# Altium integrated library Microchip Mixed Signal.IntLib: 1399 symbols (part 6 of 39)
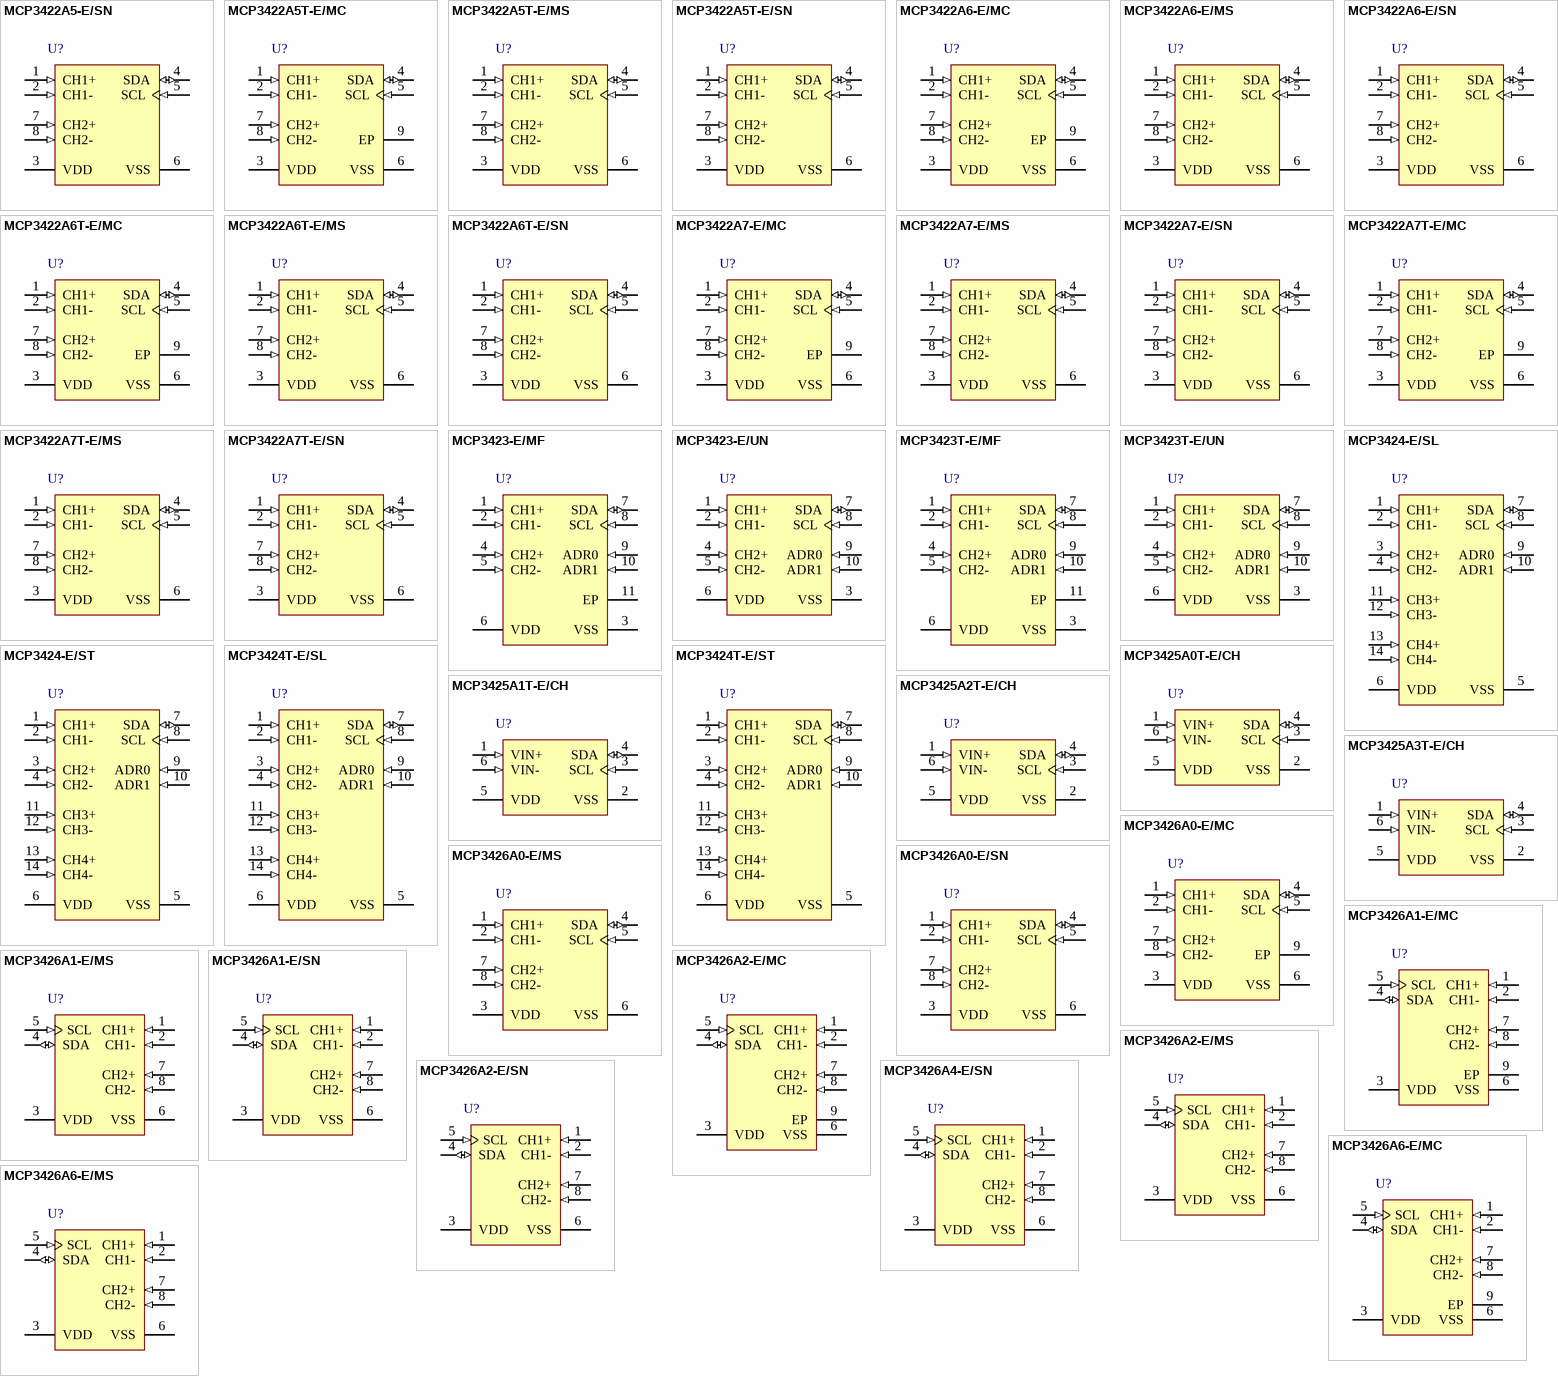
[diagram p49: symbols MCP3422A5-E/SN to MCP3426A6-E/MS]

## MCP3426A1-E/MS
designator U?
16-Bit, Multi-Channel sigma delta Analog-to-Digital Converter with I2C™ Interface and On-Board Reference, 145 uA, 2.7 to 5.5 V, -40 to 125 degC, 8-pin MSOP (MS8), Tube; Manufacturer: Microchip; PartNumber: MCP3426A1-E/MS; DatasheetVersion: Rev. A; PackageVersion: C04-111C; PackageReference: MSOP-MS8; PackageDescription: 8-Lead Plastic Micro Small Outline Package, 3 x 3 mm Body, 0.65 mm Pitch; Supplier 1: Digi-Key; Supplier Part Number 1: MCP3426A1-E/MS-ND; Supplier 2: Newark; Supplier Part Number 2: 31W8789; Supplier 3: Mouser; Supplier Part Number 3: 579-MCP3426A1-E/MS; Mounting Technology: Surface Mount; ComponentLink1Description: Manufacturer URL; ComponentLink1URL: http://www.microchip.com; ComponentLink2Description: Datasheet; ComponentLink2URL: http://ww1.microchip.com/downloads/en/DeviceDoc/22226a.pdf; ComponentLink3Description: Package Specification; ComponentLink3URL: http://www.microchip.com/stellent/groups/techpub_sg/documents/packagingspec/en012702.pdf; ComponentLink4Description: Product URL; ComponentLink4URL: http://www.microchip.com/MCP3426
footprint MCHP-MSOP-MS8_N (SOP, 8-Leads, Body 3x3mm, Pitch 0.65mm, IPC Medium Density)
footprint MCHP-MSOP-MS8_L (SOP, 8-Leads, Body 3x3mm, Pitch 0.65mm, IPC High Density)
footprint MCHP-MSOP-MS8_M (SOP, 8-Leads, Body 3x3mm, Pitch 0.65mm, IPC Low Density)
pins: 1 CH1+ (in) "Positive Differential Analog Input Pin of Channel 1", 2 CH1- (in) "Negative Differential Analog Input Pin of Channel 1", 3 VDD (power) "Positive Supply Voltage Pin", 4 SDA (io) "Bidirectional Serial Data Pin of the I2C Interface", 5 SCL (in) "Serial Clock Pin of the I2C Interface", 6 VSS (power) "Ground Pin", 7 CH2+ (in) "Positive Differential Analog Input Pin of Channel 2", 8 CH2- (in) "Negative Differential Analog Input Pin of Channel 2"

## MCP3426A1-E/SN
designator U?
16-Bit, Multi-Channel sigma delta Analog-to-Digital Converter with I2C™ Interface and On-Board Reference, 145 uA, 2.7 to 5.5 V, -40 to 125 degC, 8-pin SOIC (SN8), Tube; Manufacturer: Microchip; PartNumber: MCP3426A1-E/SN; DatasheetVersion: Rev. A; PackageVersion: C04-057C; PackageReference: SOIC-SN8; PackageDescription: 8-Lead Plastic Small Outline, 4.9 x 3.9 mm Body, 1.27 mm Pitch; Supplier 1: Digi-Key; Supplier Part Number 1: MCP3426A1-E/SN-ND; Supplier 2: Newark; Supplier Part Number 2: 31W8790; Supplier 3: Mouser; Supplier Part Number 3: 579-MCP3426A1-E/SN; Mounting Technology: Surface Mount; ComponentLink1Description: Manufacturer URL; ComponentLink1URL: http://www.microchip.com; ComponentLink2Description: Datasheet; ComponentLink2URL: http://ww1.microchip.com/downloads/en/DeviceDoc/22226a.pdf; ComponentLink3Description: Package Specification; ComponentLink3URL: http://www.microchip.com/stellent/groups/techpub_sg/documents/packagingspec/en012702.pdf; ComponentLink4Description: Product URL; ComponentLink4URL: http://www.microchip.com/MCP3426
footprint MCHP-SOIC-SN8_N (SOIC, 8-Leads, Body 4.9x3.9mm, Pitch 1.27mm, IPC Medium Density)
footprint MCHP-SOIC-SN8_L (SOIC, 8-Leads, Body 4.9x3.9mm, Pitch 1.27mm, IPC High Density)
footprint MCHP-SOIC-SN8_M (SOIC, 8-Leads, Body 4.9x3.9mm, Pitch 1.27mm, IPC Low Density)
pins: 1 CH1+ (in) "Positive Differential Analog Input Pin of Channel 1", 2 CH1- (in) "Negative Differential Analog Input Pin of Channel 1", 3 VDD (power) "Positive Supply Voltage Pin", 4 SDA (io) "Bidirectional Serial Data Pin of the I2C Interface", 5 SCL (in) "Serial Clock Pin of the I2C Interface", 6 VSS (power) "Ground Pin", 7 CH2+ (in) "Positive Differential Analog Input Pin of Channel 2", 8 CH2- (in) "Negative Differential Analog Input Pin of Channel 2"

## MCP3426A2-E/MC
designator U?
16-Bit, Multi-Channel sigma delta Analog-to-Digital Converter with I2C™ Interface and On-Board Reference, 145 uA, 2.7 to 5.5 V, -40 to 125 degC, 8-pin DFN (MC8), Tube; Manufacturer: Microchip; PartNumber: MCP3426A2-E/MC; DatasheetVersion: Rev. A; PackageVersion: C04-123C; PackageReference: DFN-MC8; PackageDescription: 8-Lead Plastic Dual Flat, 2 x 3 mm Body, 0.5 mm Pitch; Supplier 1: Digi-Key; Supplier Part Number 1: MCP3426A2-E/MC-ND; Supplier 2: Newark; Supplier Part Number 2: 31W8794; Supplier 3: Mouser; Supplier Part Number 3: 579-MCP3426A2-E/MC; Mounting Technology: Surface Mount; ComponentLink1Description: Manufacturer URL; ComponentLink1URL: http://www.microchip.com; ComponentLink2Description: Datasheet; ComponentLink2URL: http://ww1.microchip.com/downloads/en/DeviceDoc/22226a.pdf; ComponentLink3Description: Package Specification; ComponentLink3URL: http://www.microchip.com/stellent/groups/techpub_sg/documents/packagingspec/en012702.pdf; ComponentLink4Description: Product URL; ComponentLink4URL: http://www.microchip.com/MCP3426
footprint MCHP-DFN-MC8_V (SON, 8-Leads, Body 3x2mm, Pitch 0.5mm, Thermal Pad 1.45x1.75mm)
pins: 1 CH1+ (in) "Positive Differential Analog Input Pin of Channel 1", 2 CH1- (in) "Negative Differential Analog Input Pin of Channel 1", 3 VDD (power) "Positive Supply Voltage Pin", 4 SDA (io) "Bidirectional Serial Data Pin of the I2C Interface", 5 SCL (in) "Serial Clock Pin of the I2C Interface", 6 VSS (power) "Ground Pin", 7 CH2+ (in) "Positive Differential Analog Input Pin of Channel 2", 8 CH2- (in) "Negative Differential Analog Input Pin of Channel 2", 9 EP (power) "Exposed Thermal Pad (EP); must be connected to VSS"

## MCP3426A2-E/MS
designator U?
16-Bit, Multi-Channel sigma delta Analog-to-Digital Converter with I2C™ Interface and On-Board Reference, 145 uA, 2.7 to 5.5 V, -40 to 125 degC, 8-pin MSOP (MS8), Tube; Manufacturer: Microchip; PartNumber: MCP3426A2-E/MS; DatasheetVersion: Rev. A; PackageVersion: C04-111C; PackageReference: MSOP-MS8; PackageDescription: 8-Lead Plastic Micro Small Outline Package, 3 x 3 mm Body, 0.65 mm Pitch; Supplier 1: Digi-Key; Supplier Part Number 1: MCP3426A2-E/MS-ND; Supplier 2: Newark; Supplier Part Number 2: 31W8795; Supplier 3: Mouser; Supplier Part Number 3: 579-MCP3426A2-E/MS; Mounting Technology: Surface Mount; ComponentLink1Description: Manufacturer URL; ComponentLink1URL: http://www.microchip.com; ComponentLink2Description: Datasheet; ComponentLink2URL: http://ww1.microchip.com/downloads/en/DeviceDoc/22226a.pdf; ComponentLink3Description: Package Specification; ComponentLink3URL: http://www.microchip.com/stellent/groups/techpub_sg/documents/packagingspec/en012702.pdf; ComponentLink4Description: Product URL; ComponentLink4URL: http://www.microchip.com/MCP3426
footprint MCHP-MSOP-MS8_N (SOP, 8-Leads, Body 3x3mm, Pitch 0.65mm, IPC Medium Density)
footprint MCHP-MSOP-MS8_L (SOP, 8-Leads, Body 3x3mm, Pitch 0.65mm, IPC High Density)
footprint MCHP-MSOP-MS8_M (SOP, 8-Leads, Body 3x3mm, Pitch 0.65mm, IPC Low Density)
pins: 1 CH1+ (in) "Positive Differential Analog Input Pin of Channel 1", 2 CH1- (in) "Negative Differential Analog Input Pin of Channel 1", 3 VDD (power) "Positive Supply Voltage Pin", 4 SDA (io) "Bidirectional Serial Data Pin of the I2C Interface", 5 SCL (in) "Serial Clock Pin of the I2C Interface", 6 VSS (power) "Ground Pin", 7 CH2+ (in) "Positive Differential Analog Input Pin of Channel 2", 8 CH2- (in) "Negative Differential Analog Input Pin of Channel 2"

## MCP3426A2-E/SN
designator U?
16-Bit, Multi-Channel sigma delta Analog-to-Digital Converter with I2C™ Interface and On-Board Reference, 145 uA, 2.7 to 5.5 V, -40 to 125 degC, 8-pin SOIC (SN8), Tube; Manufacturer: Microchip; PartNumber: MCP3426A2-E/SN; DatasheetVersion: Rev. A; PackageVersion: C04-057C; PackageReference: SOIC-SN8; PackageDescription: 8-Lead Plastic Small Outline, 4.9 x 3.9 mm Body, 1.27 mm Pitch; Supplier 1: Digi-Key; Supplier Part Number 1: MCP3426A2-E/SN-ND; Supplier 2: Newark; Supplier Part Number 2: 31W8796; Supplier 3: Mouser; Supplier Part Number 3: 579-MCP3426A2-E/SN; Mounting Technology: Surface Mount; ComponentLink1Description: Manufacturer URL; ComponentLink1URL: http://www.microchip.com; ComponentLink2Description: Datasheet; ComponentLink2URL: http://ww1.microchip.com/downloads/en/DeviceDoc/22226a.pdf; ComponentLink3Description: Package Specification; ComponentLink3URL: http://www.microchip.com/stellent/groups/techpub_sg/documents/packagingspec/en012702.pdf; ComponentLink4Description: Product URL; ComponentLink4URL: http://www.microchip.com/MCP3426
footprint MCHP-SOIC-SN8_N (SOIC, 8-Leads, Body 4.9x3.9mm, Pitch 1.27mm, IPC Medium Density)
footprint MCHP-SOIC-SN8_L (SOIC, 8-Leads, Body 4.9x3.9mm, Pitch 1.27mm, IPC High Density)
footprint MCHP-SOIC-SN8_M (SOIC, 8-Leads, Body 4.9x3.9mm, Pitch 1.27mm, IPC Low Density)
pins: 1 CH1+ (in) "Positive Differential Analog Input Pin of Channel 1", 2 CH1- (in) "Negative Differential Analog Input Pin of Channel 1", 3 VDD (power) "Positive Supply Voltage Pin", 4 SDA (io) "Bidirectional Serial Data Pin of the I2C Interface", 5 SCL (in) "Serial Clock Pin of the I2C Interface", 6 VSS (power) "Ground Pin", 7 CH2+ (in) "Positive Differential Analog Input Pin of Channel 2", 8 CH2- (in) "Negative Differential Analog Input Pin of Channel 2"

## MCP3426A4-E/SN
designator U?
16-Bit, Multi-Channel sigma delta Analog-to-Digital Converter with I2C™ Interface and On-Board Reference, 145 uA, 2.7 to 5.5 V, -40 to 125 degC, 8-pin SOIC (SN8), Tube; Manufacturer: Microchip; PartNumber: MCP3426A4-E/SN; DatasheetVersion: Rev. A; PackageVersion: C04-057C; PackageReference: SOIC-SN8; PackageDescription: 8-Lead Plastic Small Outline, 4.9 x 3.9 mm Body, 1.27 mm Pitch; Supplier 1: Digi-Key; Supplier Part Number 1: MCP3426A4-E/SN-ND; Supplier 2: Newark; Supplier Part Number 2: 31W8808; Supplier 3: Mouser; Supplier Part Number 3: 579-MCP3426A4-E/SN; Mounting Technology: Surface Mount; ComponentLink1Description: Manufacturer URL; ComponentLink1URL: http://www.microchip.com; ComponentLink2Description: Datasheet; ComponentLink2URL: http://ww1.microchip.com/downloads/en/DeviceDoc/22226a.pdf; ComponentLink3Description: Package Specification; ComponentLink3URL: http://www.microchip.com/stellent/groups/techpub_sg/documents/packagingspec/en012702.pdf; ComponentLink4Description: Product URL; ComponentLink4URL: http://www.microchip.com/MCP3426
footprint MCHP-SOIC-SN8_N (SOIC, 8-Leads, Body 4.9x3.9mm, Pitch 1.27mm, IPC Medium Density)
footprint MCHP-SOIC-SN8_L (SOIC, 8-Leads, Body 4.9x3.9mm, Pitch 1.27mm, IPC High Density)
footprint MCHP-SOIC-SN8_M (SOIC, 8-Leads, Body 4.9x3.9mm, Pitch 1.27mm, IPC Low Density)
pins: 1 CH1+ (in) "Positive Differential Analog Input Pin of Channel 1", 2 CH1- (in) "Negative Differential Analog Input Pin of Channel 1", 3 VDD (power) "Positive Supply Voltage Pin", 4 SDA (io) "Bidirectional Serial Data Pin of the I2C Interface", 5 SCL (in) "Serial Clock Pin of the I2C Interface", 6 VSS (power) "Ground Pin", 7 CH2+ (in) "Positive Differential Analog Input Pin of Channel 2", 8 CH2- (in) "Negative Differential Analog Input Pin of Channel 2"

## MCP3426A6-E/MC
designator U?
16-Bit, Multi-Channel sigma delta Analog-to-Digital Converter with I2C™ Interface and On-Board Reference, 145 uA, 2.7 to 5.5 V, -40 to 125 degC, 8-pin DFN (MC8), Tube; Manufacturer: Microchip; PartNumber: MCP3426A6-E/MC; DatasheetVersion: Rev. A; PackageVersion: C04-123C; PackageReference: DFN-MC8; PackageDescription: 8-Lead Plastic Dual Flat, 2 x 3 mm Body, 0.5 mm Pitch; Supplier 1: Digi-Key; Supplier Part Number 1: MCP3426A6-E/MC-ND; Supplier 2: Newark; Supplier Part Number 2: 31W8818; Supplier 3: Mouser; Supplier Part Number 3: 579-MCP3426A6-E/MC; Mounting Technology: Surface Mount; ComponentLink1Description: Manufacturer URL; ComponentLink1URL: http://www.microchip.com; ComponentLink2Description: Datasheet; ComponentLink2URL: http://ww1.microchip.com/downloads/en/DeviceDoc/22226a.pdf; ComponentLink3Description: Package Specification; ComponentLink3URL: http://www.microchip.com/stellent/groups/techpub_sg/documents/packagingspec/en012702.pdf; ComponentLink4Description: Product URL; ComponentLink4URL: http://www.microchip.com/MCP3426
footprint MCHP-DFN-MC8_V (SON, 8-Leads, Body 3x2mm, Pitch 0.5mm, Thermal Pad 1.45x1.75mm)
pins: 1 CH1+ (in) "Positive Differential Analog Input Pin of Channel 1", 2 CH1- (in) "Negative Differential Analog Input Pin of Channel 1", 3 VDD (power) "Positive Supply Voltage Pin", 4 SDA (io) "Bidirectional Serial Data Pin of the I2C Interface", 5 SCL (in) "Serial Clock Pin of the I2C Interface", 6 VSS (power) "Ground Pin", 7 CH2+ (in) "Positive Differential Analog Input Pin of Channel 2", 8 CH2- (in) "Negative Differential Analog Input Pin of Channel 2", 9 EP (power) "Exposed Thermal Pad (EP); must be connected to VSS"

## MCP3426A6-E/MS
designator U?
16-Bit, Multi-Channel sigma delta Analog-to-Digital Converter with I2C™ Interface and On-Board Reference, 145 uA, 2.7 to 5.5 V, -40 to 125 degC, 8-pin MSOP (MS8), Tube; Manufacturer: Microchip; PartNumber: MCP3426A6-E/MS; DatasheetVersion: Rev. A; PackageVersion: C04-111C; PackageReference: MSOP-MS8; PackageDescription: 8-Lead Plastic Micro Small Outline Package, 3 x 3 mm Body, 0.65 mm Pitch; Supplier 1: Digi-Key; Supplier Part Number 1: MCP3426A6-E/MS-ND; Supplier 2: Newark; Supplier Part Number 2: 31W8819; Supplier 3: Mouser; Supplier Part Number 3: 579-MCP3426A6-E/MS; Mounting Technology: Surface Mount; ComponentLink1Description: Manufacturer URL; ComponentLink1URL: http://www.microchip.com; ComponentLink2Description: Datasheet; ComponentLink2URL: http://ww1.microchip.com/downloads/en/DeviceDoc/22226a.pdf; ComponentLink3Description: Package Specification; ComponentLink3URL: http://www.microchip.com/stellent/groups/techpub_sg/documents/packagingspec/en012702.pdf; ComponentLink4Description: Product URL; ComponentLink4URL: http://www.microchip.com/MCP3426
footprint MCHP-MSOP-MS8_N (SOP, 8-Leads, Body 3x3mm, Pitch 0.65mm, IPC Medium Density)
footprint MCHP-MSOP-MS8_L (SOP, 8-Leads, Body 3x3mm, Pitch 0.65mm, IPC High Density)
footprint MCHP-MSOP-MS8_M (SOP, 8-Leads, Body 3x3mm, Pitch 0.65mm, IPC Low Density)
pins: 1 CH1+ (in) "Positive Differential Analog Input Pin of Channel 1", 2 CH1- (in) "Negative Differential Analog Input Pin of Channel 1", 3 VDD (power) "Positive Supply Voltage Pin", 4 SDA (io) "Bidirectional Serial Data Pin of the I2C Interface", 5 SCL (in) "Serial Clock Pin of the I2C Interface", 6 VSS (power) "Ground Pin", 7 CH2+ (in) "Positive Differential Analog Input Pin of Channel 2", 8 CH2- (in) "Negative Differential Analog Input Pin of Channel 2"

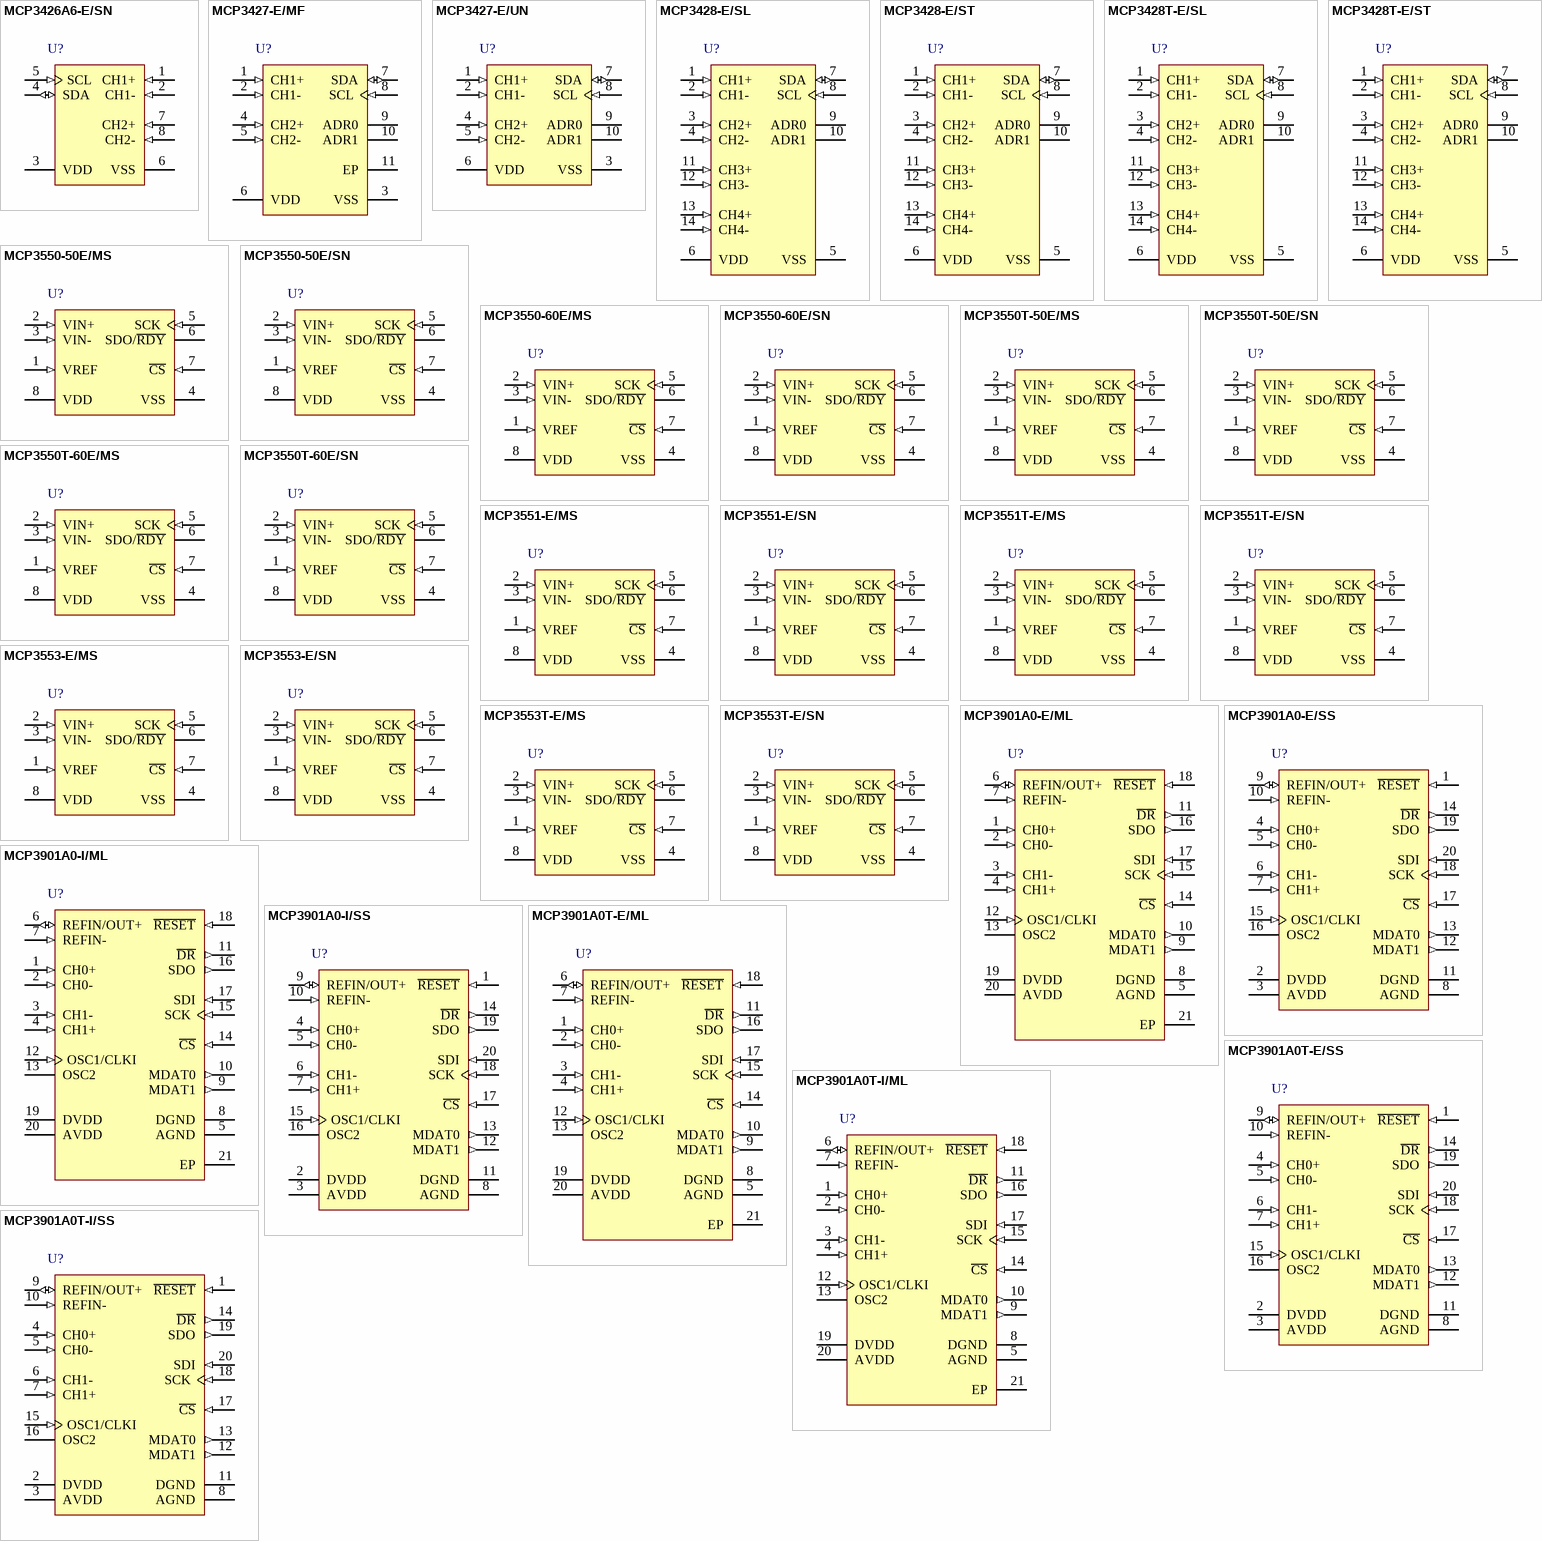
[diagram p5: symbols MCP3426A6-E/SN to MCP3901A0T-I/SS]

## MCP3426A6-E/SN
designator U?
16-Bit, Multi-Channel sigma delta Analog-to-Digital Converter with I2C™ Interface and On-Board Reference, 145 uA, 2.7 to 5.5 V, -40 to 125 degC, 8-pin SOIC (SN8), Tube; Manufacturer: Microchip; PartNumber: MCP3426A6-E/SN; DatasheetVersion: Rev. A; PackageVersion: C04-057C; PackageReference: SOIC-SN8; PackageDescription: 8-Lead Plastic Small Outline, 4.9 x 3.9 mm Body, 1.27 mm Pitch; Supplier 1: Digi-Key; Supplier Part Number 1: MCP3426A6-E/SN-ND; Supplier 2: Newark; Supplier Part Number 2: 31W8820; Supplier 3: Mouser; Supplier Part Number 3: 579-MCP3426A6-E/SN; Mounting Technology: Surface Mount; ComponentLink1Description: Manufacturer URL; ComponentLink1URL: http://www.microchip.com; ComponentLink2Description: Datasheet; ComponentLink2URL: http://ww1.microchip.com/downloads/en/DeviceDoc/22226a.pdf; ComponentLink3Description: Package Specification; ComponentLink3URL: http://www.microchip.com/stellent/groups/techpub_sg/documents/packagingspec/en012702.pdf; ComponentLink4Description: Product URL; ComponentLink4URL: http://www.microchip.com/MCP3426
footprint MCHP-SOIC-SN8_N (SOIC, 8-Leads, Body 4.9x3.9mm, Pitch 1.27mm, IPC Medium Density)
footprint MCHP-SOIC-SN8_L (SOIC, 8-Leads, Body 4.9x3.9mm, Pitch 1.27mm, IPC High Density)
footprint MCHP-SOIC-SN8_M (SOIC, 8-Leads, Body 4.9x3.9mm, Pitch 1.27mm, IPC Low Density)
pins: 1 CH1+ (in) "Positive Differential Analog Input Pin of Channel 1", 2 CH1- (in) "Negative Differential Analog Input Pin of Channel 1", 3 VDD (power) "Positive Supply Voltage Pin", 4 SDA (io) "Bidirectional Serial Data Pin of the I2C Interface", 5 SCL (in) "Serial Clock Pin of the I2C Interface", 6 VSS (power) "Ground Pin", 7 CH2+ (in) "Positive Differential Analog Input Pin of Channel 2", 8 CH2- (in) "Negative Differential Analog Input Pin of Channel 2"

## MCP3427-E/MF
designator U?
16-Bit, Multi-Channel Delta-Sigma Analog-to-Digital Converter with I2C Interface and On-Board Reference, 10-Pin DFN, Extended Temperature; Manufacturer: Microchip; PartNumber: MCP3427-E/MF; DatasheetVersion: revA, Dec-2009; PackageVersion: revBB, Aug-2009; PackageReference: DFN-MF10; PackageDescription: 10-Lead Plastic Dual Flat, No Lead Package (MF) - 3x3x0.9mm Body [DFN]; Supplier 1: Digi-Key; Supplier Part Number 1: MCP3427-E/MF-ND; Supplier 2: Farnell; Supplier Part Number 2: 1840932; Supplier 3: Newark; Supplier Part Number 3: 52R9958; Supplier 4: Mouser; Supplier Part Number 4: 579-MCP3427E/MF; Mounting Technology: Surface Mount; ComponentLink1Description: Manufacturer URL; ComponentLink1URL: http://www.microchip.com/; ComponentLink2Description: Datasheet; ComponentLink2URL: http://ww1.microchip.com/downloads/en/DeviceDoc/22226a.pdf; ComponentLink3Description: Package Specification; ComponentLink3URL: http://www.microchip.com/stellent/groups/techpub_sg/documents/packagingspec/en012702.pdf
footprint DFN-MF10 (SON, 10-Leads, Body 3x3mm, Pitch 0.5mm, Microchip Recommended)
pins: 1 CH1+ (in), 2 CH1- (in), 3 VSS (power), 4 CH2+ (in), 5 CH2- (in), 6 VDD (power), 7 SDA (io), 8 SCL (in), 9 ADR0, 10 ADR1, 11 EP

## MCP3427-E/UN
designator U?
16-Bit, Multi-Channel Delta-Sigma Analog-to-Digital Converter with I2C Interface and On-Board Reference, 10-Pin MSOP, Extended Temperature; Manufacturer: Microchip; PartNumber: MCP3427-E/UN; DatasheetVersion: revA, Dec-2009; PackageVersion: revBB, Aug-2009; PackageReference: MSOP-UN10; PackageDescription: 10-Lead Plastic Micro Small Outline Package (UN) [MSOP]; Supplier 1: Digi-Key; Supplier Part Number 1: MCP3427-E/UN-ND; Supplier 2: Newark; Supplier Part Number 2: 52R9959; Supplier 3: Mouser; Supplier Part Number 3: 579-MCP3427E/UN; Mounting Technology: Surface Mount; ComponentLink1Description: Manufacturer URL; ComponentLink1URL: http://www.microchip.com/; ComponentLink2Description: Datasheet; ComponentLink2URL: http://ww1.microchip.com/downloads/en/DeviceDoc/22226a.pdf; ComponentLink3Description: Package Specification; ComponentLink3URL: http://www.microchip.com/stellent/groups/techpub_sg/documents/packagingspec/en012702.pdf
footprint MSOP-UN10_N (TSSOP, 10-Leads, Body 3x3mm, Pitch 0.5mm, IPC Medium Density)
footprint MSOP-UN10_L (TSSOP, 10-Leads, Body 3x3mm, Pitch 0.5mm, IPC High Density)
footprint MSOP-UN10_M (TSSOP, 10-Leads, Body 3x3mm, Pitch 0.5mm, IPC Low Density)
pins: 1 CH1+ (in), 2 CH1- (in), 3 VSS (power), 4 CH2+ (in), 5 CH2- (in), 6 VDD (power), 7 SDA (io), 8 SCL (in), 9 ADR0, 10 ADR1

## MCP3428-E/SL
designator U?
16-Bit, Multi-Channel Delta-Sigma Analog-to-Digital Converter with I2C Interface and On-Board Reference, 14-Pin SOIC 150mil, Extended Temperature; Manufacturer: Microchip; PartNumber: MCP3428-E/SL; DatasheetVersion: revA, Dec-2009; PackageVersion: revBB, Aug-2009; PackageReference: SOIC-SL14; PackageDescription: 14-Lead Plastic Small Outline (SL) - Narrow, 3.90mm Body [SOIC]; Supplier 1: Digi-Key; Supplier Part Number 1: MCP3428-E/SL-ND; Supplier 2: Farnell; Supplier Part Number 2: 1825014; Supplier 3: Newark; Supplier Part Number 3: 52R9962; Supplier 4: Mouser; Supplier Part Number 4: 579-MCP3428E/SL; Mounting Technology: Surface Mount; Code_JEDEC: MS-012-AB; Code_IPC: SOIC127P600-14; ComponentLink1Description: Manufacturer URL; ComponentLink1URL: http://www.microchip.com/; ComponentLink2Description: Datasheet; ComponentLink2URL: http://ww1.microchip.com/downloads/en/DeviceDoc/22226a.pdf; ComponentLink3Description: Package Specification; ComponentLink3URL: http://www.microchip.com/stellent/groups/techpub_sg/documents/packagingspec/en012702.pdf
footprint SOIC-SL14_N (SOIC, 14-Leads, Body 8.7x3.9mm, Pitch 1.27mm, IPC Medium Density)
footprint SOIC-SL14_L (SOIC, 14-Leads, Body 8.7x3.9mm, Pitch 1.27mm, IPC High Density)
footprint SOIC-SL14_M (SOIC, 14-Leads, Body 8.7x3.9mm, Pitch 1.27mm, IPC Low Density)
pins: 1 CH1+ (in), 2 CH1- (in), 3 CH2+ (in), 4 CH2- (in), 5 VSS (power), 6 VDD (power), 7 SDA (io), 8 SCL (in), 9 ADR0, 10 ADR1, 11 CH3+ (in), 12 CH3- (in), 13 CH4+ (in), 14 CH4- (in)

## MCP3428-E/ST
designator U?
16-Bit, Multi-Channel Delta-Sigma Analog-to-Digital Converter with I2C Interface and On-Board Reference, 14-Pin TSSOP, Extended Temperature; Manufacturer: Microchip; PartNumber: MCP3428-E/ST; DatasheetVersion: revA, Dec-2009; PackageVersion: revBB, Aug-2009; PackageReference: TSSOP-ST14; PackageDescription: 14-Lead Plastic Thin Shrink Small Outline (ST) - 4.4mm Body [TSSOP]; Supplier 1: Digi-Key; Supplier Part Number 1: MCP3428-E/ST-ND; Supplier 2: Farnell; Supplier Part Number 2: 1834910; Supplier 3: Newark; Supplier Part Number 3: 52R9963; Supplier 4: Mouser; Supplier Part Number 4: 579-MCP3428E/ST; Mounting Technology: Surface Mount; ComponentLink1Description: Manufacturer URL; ComponentLink1URL: http://www.microchip.com/; ComponentLink2Description: Datasheet; ComponentLink2URL: http://ww1.microchip.com/downloads/en/DeviceDoc/22226a.pdf; ComponentLink3Description: Package Specification; ComponentLink3URL: http://www.microchip.com/stellent/groups/techpub_sg/documents/packagingspec/en012702.pdf
footprint TSSOP-ST14_N (TSOP, 14-Leads, Body 5x4.4mm, Pitch 0.65mm, IPC Medium Density)
footprint TSSOP-ST14_L (TSOP, 14-Leads, Body 5x4.4mm, Pitch 0.65mm, IPC High Density)
footprint TSSOP-ST14_M (TSOP, 14-Leads, Body 5x4.4mm, Pitch 0.65mm, IPC Low Density)
pins: 1 CH1+ (in), 2 CH1- (in), 3 CH2+ (in), 4 CH2- (in), 5 VSS (power), 6 VDD (power), 7 SDA (io), 8 SCL (in), 9 ADR0, 10 ADR1, 11 CH3+ (in), 12 CH3- (in), 13 CH4+ (in), 14 CH4- (in)

## MCP3428T-E/SL
designator U?
16-Bit, Multi-Channel Delta-Sigma Analog-to-Digital Converter with I2C Interface and On-Board Reference, 14-Pin SOIC 150mil, Extended Temperature, Tape and Reel; Manufacturer: Microchip; PartNumber: MCP3428T-E/SL; DatasheetVersion: revA, Dec-2009; PackageVersion: revBB, Aug-2009; PackageReference: SOIC-SL14; PackageDescription: 14-Lead Plastic Small Outline (SL) - Narrow, 3.90mm Body [SOIC]; Supplier 1: Digi-Key; Supplier Part Number 1: MCP3428T-E/SL-ND; Supplier 2: Mouser; Supplier Part Number 2: 579-MCP3428TE/SL; Mounting Technology: Surface Mount; Code_JEDEC: MS-012-AB; Code_IPC: SOIC127P600-14; ComponentLink1Description: Manufacturer URL; ComponentLink1URL: http://www.microchip.com/; ComponentLink2Description: Datasheet; ComponentLink2URL: http://ww1.microchip.com/downloads/en/DeviceDoc/22226a.pdf; ComponentLink3Description: Package Specification; ComponentLink3URL: http://www.microchip.com/stellent/groups/techpub_sg/documents/packagingspec/en012702.pdf
footprint SOIC-SL14_N (SOIC, 14-Leads, Body 8.7x3.9mm, Pitch 1.27mm, IPC Medium Density)
footprint SOIC-SL14_L (SOIC, 14-Leads, Body 8.7x3.9mm, Pitch 1.27mm, IPC High Density)
footprint SOIC-SL14_M (SOIC, 14-Leads, Body 8.7x3.9mm, Pitch 1.27mm, IPC Low Density)
pins: 1 CH1+ (in), 2 CH1- (in), 3 CH2+ (in), 4 CH2- (in), 5 VSS (power), 6 VDD (power), 7 SDA (io), 8 SCL (in), 9 ADR0, 10 ADR1, 11 CH3+ (in), 12 CH3- (in), 13 CH4+ (in), 14 CH4- (in)

## MCP3428T-E/ST
designator U?
16-Bit, Multi-Channel Delta-Sigma Analog-to-Digital Converter with I2C Interface and On-Board Reference, 14-Pin TSSOP, Extended Temperature, Tape and Reel; Manufacturer: Microchip; PartNumber: MCP3428T-E/ST; DatasheetVersion: revA, Dec-2009; PackageVersion: revBB, Aug-2009; PackageReference: TSSOP-ST14; PackageDescription: 14-Lead Plastic Thin Shrink Small Outline (ST) - 4.4mm Body [TSSOP]; Supplier 1: Digi-Key; Supplier Part Number 1: MCP3428T-E/ST-ND; Supplier 2: Mouser; Supplier Part Number 2: 579-MCP3428TE/ST; Mounting Technology: Surface Mount; ComponentLink1Description: Manufacturer URL; ComponentLink1URL: http://www.microchip.com/; ComponentLink2Description: Datasheet; ComponentLink2URL: http://ww1.microchip.com/downloads/en/DeviceDoc/22226a.pdf; ComponentLink3Description: Package Specification; ComponentLink3URL: http://www.microchip.com/stellent/groups/techpub_sg/documents/packagingspec/en012702.pdf
footprint TSSOP-ST14_N (TSOP, 14-Leads, Body 5x4.4mm, Pitch 0.65mm, IPC Medium Density)
footprint TSSOP-ST14_L (TSOP, 14-Leads, Body 5x4.4mm, Pitch 0.65mm, IPC High Density)
footprint TSSOP-ST14_M (TSOP, 14-Leads, Body 5x4.4mm, Pitch 0.65mm, IPC Low Density)
pins: 1 CH1+ (in), 2 CH1- (in), 3 CH2+ (in), 4 CH2- (in), 5 VSS (power), 6 VDD (power), 7 SDA (io), 8 SCL (in), 9 ADR0, 10 ADR1, 11 CH3+ (in), 12 CH3- (in), 13 CH4+ (in), 14 CH4- (in)

## MCP3550-50E/MS
designator U?
Low-Power, Single-Channel 22-Bit Delta-Sigma ADC, 8-Pin MSOP, Extended Temperature; Manufacturer: Microchip; PartNumber: MCP3550-50E/MS; DatasheetVersion: revE, Apr-2009; PackageVersion: revBB, Aug-2009; PackageReference: MSOP-MS8; PackageDescription: 8-Lead Plastic Micro Small Outline Package (MS) [MSOP]; Supplier 1: Digi-Key; Supplier Part Number 1: MCP3550-50E/MS-ND; Supplier 2: Farnell; Supplier Part Number 2: 1627198; Supplier 3: Newark; Supplier Part Number 3: 69K0130; Supplier 4: Mouser; Supplier Part Number 4: 579-MCP3550-50E/MS; Mounting Technology: Surface Mount; ComponentLink1Description: Manufacturer URL; ComponentLink1URL: http://www.microchip.com/; ComponentLink2Description: Datasheet; ComponentLink2URL: http://ww1.microchip.com/downloads/en/DeviceDoc/21950e.pdf; ComponentLink3Description: Package Specification; ComponentLink3URL: http://www.microchip.com/stellent/groups/techpub_sg/documents/packagingspec/en012702.pdf
footprint MSOP-MS8_N (TSOP, 8-Leads, Body 3x3mm, Pitch 0.65mm, IPC Medium Density)
footprint MSOP-MS8_L (TSOP, 8-Leads, Body 3x3mm, Pitch 0.65mm, IPC High Density)
footprint MSOP-MS8_M (TSOP, 8-Leads, Body 3x3mm, Pitch 0.65mm, IPC Low Density)
pins: 1 VREF (in), 2 VIN+ (in), 3 VIN- (in), 4 VSS (power), 5 SCK (in), 6 SDO/~{RDY} (hiz), 7 ~{CS} (in), 8 VDD (power)

## MCP3550-50E/SN
designator U?
Low-Power, Single-Channel 22-Bit Delta-Sigma ADC, 8-Pin SOIC 150mil, Extended Temperature; Manufacturer: Microchip; PartNumber: MCP3550-50E/SN; DatasheetVersion: revE, Apr-2009; PackageVersion: revBB, Aug-2009; PackageReference: SOIC-SN8; PackageDescription: 8-Lead Plastic Small Outline (SN) - Narrow, 3.90mm Body [SOIC]; Supplier 1: Digi-Key; Supplier Part Number 1: MCP3550-50E/SN-ND; Supplier 2: Farnell; Supplier Part Number 2: 1557411; Supplier 3: Mouser; Supplier Part Number 3: 579-MCP3550-50E/SN; Mounting Technology: Surface Mount; Code_JEDEC: MS-012; Code_IPC: SOIC127P600-8; ComponentLink1Description: Manufacturer URL; ComponentLink1URL: http://www.microchip.com/; ComponentLink2Description: Datasheet; ComponentLink2URL: http://ww1.microchip.com/downloads/en/DeviceDoc/21950e.pdf; ComponentLink3Description: Package Specification; ComponentLink3URL: http://www.microchip.com/stellent/groups/techpub_sg/documents/packagingspec/en012702.pdf
footprint SOIC-SN8_N (SOIC, 8-Leads, Body 4.9x3.8mm, Pitch 1.27mm, IPC Medium Density)
footprint SOIC-SN8_L (SOIC, 8-Leads, Body 4.9x3.8mm, Pitch 1.27mm, IPC High Density)
footprint SOIC-SN8_M (SOIC, 8-Leads, Body 4.9x3.8mm, Pitch 1.27mm, IPC Low Density)
pins: 1 VREF (in), 2 VIN+ (in), 3 VIN- (in), 4 VSS (power), 5 SCK (in), 6 SDO/~{RDY} (hiz), 7 ~{CS} (in), 8 VDD (power)

## MCP3550-60E/MS
designator U?
Low-Power, Single-Channel 22-Bit Delta-Sigma ADC, 8-Pin MSOP, Extended Temperature; Manufacturer: Microchip; PartNumber: MCP3550-60E/MS; DatasheetVersion: revE, Apr-2009; PackageVersion: revBB, Aug-2009; PackageReference: MSOP-MS8; PackageDescription: 8-Lead Plastic Micro Small Outline Package (MS) [MSOP]; Supplier 1: Digi-Key; Supplier Part Number 1: MCP3550-60E/MS-ND; Supplier 2: Farnell; Supplier Part Number 2: 1840933; Supplier 3: Newark; Supplier Part Number 3: 69K0134; Supplier 4: Mouser; Supplier Part Number 4: 579-MCP3550-60E/MS; Mounting Technology: Surface Mount; ComponentLink1Description: Manufacturer URL; ComponentLink1URL: http://www.microchip.com/; ComponentLink2Description: Datasheet; ComponentLink2URL: http://ww1.microchip.com/downloads/en/DeviceDoc/21950e.pdf; ComponentLink3Description: Package Specification; ComponentLink3URL: http://www.microchip.com/stellent/groups/techpub_sg/documents/packagingspec/en012702.pdf
footprint MSOP-MS8_N (TSOP, 8-Leads, Body 3x3mm, Pitch 0.65mm, IPC Medium Density)
footprint MSOP-MS8_L (TSOP, 8-Leads, Body 3x3mm, Pitch 0.65mm, IPC High Density)
footprint MSOP-MS8_M (TSOP, 8-Leads, Body 3x3mm, Pitch 0.65mm, IPC Low Density)
pins: 1 VREF (in), 2 VIN+ (in), 3 VIN- (in), 4 VSS (power), 5 SCK (in), 6 SDO/~{RDY} (hiz), 7 ~{CS} (in), 8 VDD (power)

## MCP3550-60E/SN
designator U?
Low-Power, Single-Channel 22-Bit Delta-Sigma ADC, 8-Pin SOIC 150mil, Extended Temperature; Manufacturer: Microchip; PartNumber: MCP3550-60E/SN; DatasheetVersion: revE, Apr-2009; PackageVersion: revBB, Aug-2009; PackageReference: SOIC-SN8; PackageDescription: 8-Lead Plastic Small Outline (SN) - Narrow, 3.90mm Body [SOIC]; Supplier 1: Digi-Key; Supplier Part Number 1: MCP3550-60E/SN-ND; Supplier 2: Farnell; Supplier Part Number 2: 1840934; Supplier 3: Newark; Supplier Part Number 3: 69K0135; Supplier 4: Mouser; Supplier Part Number 4: 579-MCP3550-60E/SN; Mounting Technology: Surface Mount; Code_JEDEC: MS-012; Code_IPC: SOIC127P600-8; ComponentLink1Description: Manufacturer URL; ComponentLink1URL: http://www.microchip.com/; ComponentLink2Description: Datasheet; ComponentLink2URL: http://ww1.microchip.com/downloads/en/DeviceDoc/21950e.pdf; ComponentLink3Description: Package Specification; ComponentLink3URL: http://www.microchip.com/stellent/groups/techpub_sg/documents/packagingspec/en012702.pdf
footprint SOIC-SN8_N (SOIC, 8-Leads, Body 4.9x3.8mm, Pitch 1.27mm, IPC Medium Density)
footprint SOIC-SN8_L (SOIC, 8-Leads, Body 4.9x3.8mm, Pitch 1.27mm, IPC High Density)
footprint SOIC-SN8_M (SOIC, 8-Leads, Body 4.9x3.8mm, Pitch 1.27mm, IPC Low Density)
pins: 1 VREF (in), 2 VIN+ (in), 3 VIN- (in), 4 VSS (power), 5 SCK (in), 6 SDO/~{RDY} (hiz), 7 ~{CS} (in), 8 VDD (power)

## MCP3550T-50E/MS
designator U?
Low-Power, Single-Channel 22-Bit Delta-Sigma ADC, 8-Pin MSOP, Extended Temperature, Tape and Reel; Manufacturer: Microchip; PartNumber: MCP3550T-50E/MS; DatasheetVersion: revE, Apr-2009; PackageVersion: revBB, Aug-2009; PackageReference: MSOP-MS8; PackageDescription: 8-Lead Plastic Micro Small Outline Package (MS) [MSOP]; Supplier 1: Digi-Key; Supplier Part Number 1: MCP3550T-50E/MS-ND; Supplier 2: Mouser; Supplier Part Number 2: 579-MCP3550T-50E/MS; Mounting Technology: Surface Mount; ComponentLink1Description: Manufacturer URL; ComponentLink1URL: http://www.microchip.com/; ComponentLink2Description: Datasheet; ComponentLink2URL: http://ww1.microchip.com/downloads/en/DeviceDoc/21950e.pdf; ComponentLink3Description: Package Specification; ComponentLink3URL: http://www.microchip.com/stellent/groups/techpub_sg/documents/packagingspec/en012702.pdf
footprint MSOP-MS8_N (TSOP, 8-Leads, Body 3x3mm, Pitch 0.65mm, IPC Medium Density)
footprint MSOP-MS8_L (TSOP, 8-Leads, Body 3x3mm, Pitch 0.65mm, IPC High Density)
footprint MSOP-MS8_M (TSOP, 8-Leads, Body 3x3mm, Pitch 0.65mm, IPC Low Density)
pins: 1 VREF (in), 2 VIN+ (in), 3 VIN- (in), 4 VSS (power), 5 SCK (in), 6 SDO/~{RDY} (hiz), 7 ~{CS} (in), 8 VDD (power)

## MCP3550T-50E/SN
designator U?
Low-Power, Single-Channel 22-Bit Delta-Sigma ADC, 8-Pin SOIC 150mil, Extended Temperature, Tape and Reel; Manufacturer: Microchip; PartNumber: MCP3550T-50E/SN; DatasheetVersion: revE, Apr-2009; PackageVersion: revBB, Aug-2009; PackageReference: SOIC-SN8; PackageDescription: 8-Lead Plastic Small Outline (SN) - Narrow, 3.90mm Body [SOIC]; Supplier 1: Digi-Key; Supplier Part Number 1: MCP3550T-50E/SN-ND; Supplier 2: Mouser; Supplier Part Number 2: 579-MCP3550T-50E/SN; Mounting Technology: Surface Mount; Code_JEDEC: MS-012; Code_IPC: SOIC127P600-8; ComponentLink1Description: Manufacturer URL; ComponentLink1URL: http://www.microchip.com/; ComponentLink2Description: Datasheet; ComponentLink2URL: http://ww1.microchip.com/downloads/en/DeviceDoc/21950e.pdf; ComponentLink3Description: Package Specification; ComponentLink3URL: http://www.microchip.com/stellent/groups/techpub_sg/documents/packagingspec/en012702.pdf
footprint SOIC-SN8_N (SOIC, 8-Leads, Body 4.9x3.8mm, Pitch 1.27mm, IPC Medium Density)
footprint SOIC-SN8_L (SOIC, 8-Leads, Body 4.9x3.8mm, Pitch 1.27mm, IPC High Density)
footprint SOIC-SN8_M (SOIC, 8-Leads, Body 4.9x3.8mm, Pitch 1.27mm, IPC Low Density)
pins: 1 VREF (in), 2 VIN+ (in), 3 VIN- (in), 4 VSS (power), 5 SCK (in), 6 SDO/~{RDY} (hiz), 7 ~{CS} (in), 8 VDD (power)

## MCP3550T-60E/MS
designator U?
Low-Power, Single-Channel 22-Bit Delta-Sigma ADC, 8-Pin MSOP, Extended Temperature, Tape and Reel; Manufacturer: Microchip; PartNumber: MCP3550T-60E/MS; DatasheetVersion: revE, Apr-2009; PackageVersion: revBB, Aug-2009; PackageReference: MSOP-MS8; PackageDescription: 8-Lead Plastic Micro Small Outline Package (MS) [MSOP]; Supplier 1: Digi-Key; Supplier Part Number 1: MCP3550T-60E/MS-ND; Supplier 2: Mouser; Supplier Part Number 2: 579-MCP3550T-60E/MS; Mounting Technology: Surface Mount; ComponentLink1Description: Manufacturer URL; ComponentLink1URL: http://www.microchip.com/; ComponentLink2Description: Datasheet; ComponentLink2URL: http://ww1.microchip.com/downloads/en/DeviceDoc/21950e.pdf; ComponentLink3Description: Package Specification; ComponentLink3URL: http://www.microchip.com/stellent/groups/techpub_sg/documents/packagingspec/en012702.pdf
footprint MSOP-MS8_N (TSOP, 8-Leads, Body 3x3mm, Pitch 0.65mm, IPC Medium Density)
footprint MSOP-MS8_L (TSOP, 8-Leads, Body 3x3mm, Pitch 0.65mm, IPC High Density)
footprint MSOP-MS8_M (TSOP, 8-Leads, Body 3x3mm, Pitch 0.65mm, IPC Low Density)
pins: 1 VREF (in), 2 VIN+ (in), 3 VIN- (in), 4 VSS (power), 5 SCK (in), 6 SDO/~{RDY} (hiz), 7 ~{CS} (in), 8 VDD (power)

## MCP3550T-60E/SN
designator U?
Low-Power, Single-Channel 22-Bit Delta-Sigma ADC, 8-Pin SOIC 150mil, Extended Temperature, Tape and Reel; Manufacturer: Microchip; PartNumber: MCP3550T-60E/SN; DatasheetVersion: revE, Apr-2009; PackageVersion: revBB, Aug-2009; PackageReference: SOIC-SN8; PackageDescription: 8-Lead Plastic Small Outline (SN) - Narrow, 3.90mm Body [SOIC]; Supplier 1: Digi-Key; Supplier Part Number 1: MCP3550T-60E/SN-ND; Supplier 2: Mouser; Supplier Part Number 2: 579-MCP3550T-60E/SN; Mounting Technology: Surface Mount; Code_JEDEC: MS-012; Code_IPC: SOIC127P600-8; ComponentLink1Description: Manufacturer URL; ComponentLink1URL: http://www.microchip.com/; ComponentLink2Description: Datasheet; ComponentLink2URL: http://ww1.microchip.com/downloads/en/DeviceDoc/21950e.pdf; ComponentLink3Description: Package Specification; ComponentLink3URL: http://www.microchip.com/stellent/groups/techpub_sg/documents/packagingspec/en012702.pdf
footprint SOIC-SN8_N (SOIC, 8-Leads, Body 4.9x3.8mm, Pitch 1.27mm, IPC Medium Density)
footprint SOIC-SN8_L (SOIC, 8-Leads, Body 4.9x3.8mm, Pitch 1.27mm, IPC High Density)
footprint SOIC-SN8_M (SOIC, 8-Leads, Body 4.9x3.8mm, Pitch 1.27mm, IPC Low Density)
pins: 1 VREF (in), 2 VIN+ (in), 3 VIN- (in), 4 VSS (power), 5 SCK (in), 6 SDO/~{RDY} (hiz), 7 ~{CS} (in), 8 VDD (power)

## MCP3551-E/MS
designator U?
Low-Power, Single-Channel 22-Bit Delta-Sigma ADC, 8-Pin MSOP, Extended Temperature; Manufacturer: Microchip; PartNumber: MCP3551-E/MS; DatasheetVersion: revE, Apr-2009; PackageVersion: revBB, Aug-2009; PackageReference: MSOP-MS8; PackageDescription: 8-Lead Plastic Micro Small Outline Package (MS) [MSOP]; Supplier 1: Digi-Key; Supplier Part Number 1: MCP3551-E/MS-ND; Supplier 2: Farnell; Supplier Part Number 2: 1084624; Supplier 3: Newark; Supplier Part Number 3: 22K1368; Supplier 4: Mouser; Supplier Part Number 4: 579-MCP3551-E/MS; Mounting Technology: Surface Mount; ComponentLink1Description: Manufacturer URL; ComponentLink1URL: http://www.microchip.com/; ComponentLink2Description: Datasheet; ComponentLink2URL: http://ww1.microchip.com/downloads/en/DeviceDoc/21950e.pdf; ComponentLink3Description: Package Specification; ComponentLink3URL: http://www.microchip.com/stellent/groups/techpub_sg/documents/packagingspec/en012702.pdf
footprint MSOP-MS8_N (TSOP, 8-Leads, Body 3x3mm, Pitch 0.65mm, IPC Medium Density)
footprint MSOP-MS8_L (TSOP, 8-Leads, Body 3x3mm, Pitch 0.65mm, IPC High Density)
footprint MSOP-MS8_M (TSOP, 8-Leads, Body 3x3mm, Pitch 0.65mm, IPC Low Density)
pins: 1 VREF (in), 2 VIN+ (in), 3 VIN- (in), 4 VSS (power), 5 SCK (in), 6 SDO/~{RDY} (hiz), 7 ~{CS} (in), 8 VDD (power)

## MCP3551-E/SN
designator U?
Low-Power, Single-Channel 22-Bit Delta-Sigma ADC, 8-Pin SOIC 150mil, Extended Temperature; Manufacturer: Microchip; PartNumber: MCP3551-E/SN; DatasheetVersion: revE, Apr-2009; PackageVersion: revBB, Aug-2009; PackageReference: SOIC-SN8; PackageDescription: 8-Lead Plastic Small Outline (SN) - Narrow, 3.90mm Body [SOIC]; Supplier 1: Digi-Key; Supplier Part Number 1: MCP3551-E/SN-ND; Supplier 2: Farnell; Supplier Part Number 2: 1084625; Supplier 3: Newark; Supplier Part Number 3: 22K1369; Supplier 4: Newark; Supplier Part Number 4: 97K4494; Supplier 5: Mouser; Supplier Part Number 5: 579-MCP3551-E/SN; Mounting Technology: Surface Mount; Code_JEDEC: MS-012; Code_IPC: SOIC127P600-8; ComponentLink1Description: Manufacturer URL; ComponentLink1URL: http://www.microchip.com/; ComponentLink2Description: Datasheet; ComponentLink2URL: http://ww1.microchip.com/downloads/en/DeviceDoc/21950e.pdf; ComponentLink3Description: Package Specification; ComponentLink3URL: http://www.microchip.com/stellent/groups/techpub_sg/documents/packagingspec/en012702.pdf
footprint SOIC-SN8_N (SOIC, 8-Leads, Body 4.9x3.8mm, Pitch 1.27mm, IPC Medium Density)
footprint SOIC-SN8_L (SOIC, 8-Leads, Body 4.9x3.8mm, Pitch 1.27mm, IPC High Density)
footprint SOIC-SN8_M (SOIC, 8-Leads, Body 4.9x3.8mm, Pitch 1.27mm, IPC Low Density)
pins: 1 VREF (in), 2 VIN+ (in), 3 VIN- (in), 4 VSS (power), 5 SCK (in), 6 SDO/~{RDY} (hiz), 7 ~{CS} (in), 8 VDD (power)

## MCP3551T-E/MS
designator U?
Low-Power, Single-Channel 22-Bit Delta-Sigma ADC, 8-Pin MSOP, Extended Temperature, Tape and Reel; Manufacturer: Microchip; PartNumber: MCP3551T-E/MS; DatasheetVersion: revE, Apr-2009; PackageVersion: revBB, Aug-2009; PackageReference: MSOP-MS8; PackageDescription: 8-Lead Plastic Micro Small Outline Package (MS) [MSOP]; Supplier 1: Digi-Key; Supplier Part Number 1: MCP3551T-E/MS-ND; Supplier 2: Mouser; Supplier Part Number 2: 579-MCP3551T-E/MS; Mounting Technology: Surface Mount; ComponentLink1Description: Manufacturer URL; ComponentLink1URL: http://www.microchip.com/; ComponentLink2Description: Datasheet; ComponentLink2URL: http://ww1.microchip.com/downloads/en/DeviceDoc/21950e.pdf; ComponentLink3Description: Package Specification; ComponentLink3URL: http://www.microchip.com/stellent/groups/techpub_sg/documents/packagingspec/en012702.pdf
footprint MSOP-MS8_N (TSOP, 8-Leads, Body 3x3mm, Pitch 0.65mm, IPC Medium Density)
footprint MSOP-MS8_L (TSOP, 8-Leads, Body 3x3mm, Pitch 0.65mm, IPC High Density)
footprint MSOP-MS8_M (TSOP, 8-Leads, Body 3x3mm, Pitch 0.65mm, IPC Low Density)
pins: 1 VREF (in), 2 VIN+ (in), 3 VIN- (in), 4 VSS (power), 5 SCK (in), 6 SDO/~{RDY} (hiz), 7 ~{CS} (in), 8 VDD (power)

## MCP3551T-E/SN
designator U?
Low-Power, Single-Channel 22-Bit Delta-Sigma ADC, 8-Pin SOIC 150mil, Extended Temperature, Tape and Reel; Manufacturer: Microchip; PartNumber: MCP3551T-E/SN; DatasheetVersion: revE, Apr-2009; PackageVersion: revBB, Aug-2009; PackageReference: SOIC-SN8; PackageDescription: 8-Lead Plastic Small Outline (SN) - Narrow, 3.90mm Body [SOIC]; Supplier 1: Digi-Key; Supplier Part Number 1: MCP3551T-E/SN-ND; Supplier 2: Newark; Supplier Part Number 2: 22K1371; Supplier 3: Mouser; Supplier Part Number 3: 579-MCP3551T-E/SN; Mounting Technology: Surface Mount; Code_JEDEC: MS-012; Code_IPC: SOIC127P600-8; ComponentLink1Description: Manufacturer URL; ComponentLink1URL: http://www.microchip.com/; ComponentLink2Description: Datasheet; ComponentLink2URL: http://ww1.microchip.com/downloads/en/DeviceDoc/21950e.pdf; ComponentLink3Description: Package Specification; ComponentLink3URL: http://www.microchip.com/stellent/groups/techpub_sg/documents/packagingspec/en012702.pdf
footprint SOIC-SN8_N (SOIC, 8-Leads, Body 4.9x3.8mm, Pitch 1.27mm, IPC Medium Density)
footprint SOIC-SN8_L (SOIC, 8-Leads, Body 4.9x3.8mm, Pitch 1.27mm, IPC High Density)
footprint SOIC-SN8_M (SOIC, 8-Leads, Body 4.9x3.8mm, Pitch 1.27mm, IPC Low Density)
pins: 1 VREF (in), 2 VIN+ (in), 3 VIN- (in), 4 VSS (power), 5 SCK (in), 6 SDO/~{RDY} (hiz), 7 ~{CS} (in), 8 VDD (power)

## MCP3553-E/MS
designator U?
Low-Power, Single-Channel 22-Bit Delta-Sigma ADC, 8-Pin MSOP, Extended Temperature; Manufacturer: Microchip; PartNumber: MCP3553-E/MS; DatasheetVersion: revE, Apr-2009; PackageVersion: revBB, Aug-2009; PackageReference: MSOP-MS8; PackageDescription: 8-Lead Plastic Micro Small Outline Package (MS) [MSOP]; Supplier 1: Digi-Key; Supplier Part Number 1: MCP3553-E/MS-ND; Supplier 2: Farnell; Supplier Part Number 2: 1439515; Supplier 3: Newark; Supplier Part Number 3: 56K7003; Supplier 4: Mouser; Supplier Part Number 4: 579-MCP3553-E/MS; Mounting Technology: Surface Mount; ComponentLink1Description: Manufacturer URL; ComponentLink1URL: http://www.microchip.com/; ComponentLink2Description: Datasheet; ComponentLink2URL: http://ww1.microchip.com/downloads/en/DeviceDoc/21950e.pdf; ComponentLink3Description: Package Specification; ComponentLink3URL: http://www.microchip.com/stellent/groups/techpub_sg/documents/packagingspec/en012702.pdf
footprint MSOP-MS8_N (TSOP, 8-Leads, Body 3x3mm, Pitch 0.65mm, IPC Medium Density)
footprint MSOP-MS8_L (TSOP, 8-Leads, Body 3x3mm, Pitch 0.65mm, IPC High Density)
footprint MSOP-MS8_M (TSOP, 8-Leads, Body 3x3mm, Pitch 0.65mm, IPC Low Density)
pins: 1 VREF (in), 2 VIN+ (in), 3 VIN- (in), 4 VSS (power), 5 SCK (in), 6 SDO/~{RDY} (hiz), 7 ~{CS} (in), 8 VDD (power)

## MCP3553-E/SN
designator U?
Low-Power, Single-Channel 22-Bit Delta-Sigma ADC, 8-Pin SOIC 150mil, Extended Temperature; Manufacturer: Microchip; PartNumber: MCP3553-E/SN; DatasheetVersion: revE, Apr-2009; PackageVersion: revBB, Aug-2009; PackageReference: SOIC-SN8; PackageDescription: 8-Lead Plastic Small Outline (SN) - Narrow, 3.90mm Body [SOIC]; Supplier 1: Digi-Key; Supplier Part Number 1: MCP3553-E/SN-ND; Supplier 2: Farnell; Supplier Part Number 2: 1605569; Supplier 3: Newark; Supplier Part Number 3: 56K7004; Supplier 4: Mouser; Supplier Part Number 4: 579-MCP3553-E/SN; Mounting Technology: Surface Mount; Code_JEDEC: MS-012; Code_IPC: SOIC127P600-8; ComponentLink1Description: Manufacturer URL; ComponentLink1URL: http://www.microchip.com/; ComponentLink2Description: Datasheet; ComponentLink2URL: http://ww1.microchip.com/downloads/en/DeviceDoc/21950e.pdf; ComponentLink3Description: Package Specification; ComponentLink3URL: http://www.microchip.com/stellent/groups/techpub_sg/documents/packagingspec/en012702.pdf
footprint SOIC-SN8_N (SOIC, 8-Leads, Body 4.9x3.8mm, Pitch 1.27mm, IPC Medium Density)
footprint SOIC-SN8_L (SOIC, 8-Leads, Body 4.9x3.8mm, Pitch 1.27mm, IPC High Density)
footprint SOIC-SN8_M (SOIC, 8-Leads, Body 4.9x3.8mm, Pitch 1.27mm, IPC Low Density)
pins: 1 VREF (in), 2 VIN+ (in), 3 VIN- (in), 4 VSS (power), 5 SCK (in), 6 SDO/~{RDY} (hiz), 7 ~{CS} (in), 8 VDD (power)

## MCP3553T-E/MS
designator U?
Low-Power, Single-Channel 22-Bit Delta-Sigma ADC, 8-Pin MSOP, Extended Temperature, Tape and Reel; Manufacturer: Microchip; PartNumber: MCP3553T-E/MS; DatasheetVersion: revE, Apr-2009; PackageVersion: revBB, Aug-2009; PackageReference: MSOP-MS8; PackageDescription: 8-Lead Plastic Micro Small Outline Package (MS) [MSOP]; Supplier 1: Digi-Key; Supplier Part Number 1: MCP3553T-E/MS-ND; Supplier 2: Mouser; Supplier Part Number 2: 579-MCP3553T-E/MS; Mounting Technology: Surface Mount; ComponentLink1Description: Manufacturer URL; ComponentLink1URL: http://www.microchip.com/; ComponentLink2Description: Datasheet; ComponentLink2URL: http://ww1.microchip.com/downloads/en/DeviceDoc/21950e.pdf; ComponentLink3Description: Package Specification; ComponentLink3URL: http://www.microchip.com/stellent/groups/techpub_sg/documents/packagingspec/en012702.pdf
footprint MSOP-MS8_N (TSOP, 8-Leads, Body 3x3mm, Pitch 0.65mm, IPC Medium Density)
footprint MSOP-MS8_L (TSOP, 8-Leads, Body 3x3mm, Pitch 0.65mm, IPC High Density)
footprint MSOP-MS8_M (TSOP, 8-Leads, Body 3x3mm, Pitch 0.65mm, IPC Low Density)
pins: 1 VREF (in), 2 VIN+ (in), 3 VIN- (in), 4 VSS (power), 5 SCK (in), 6 SDO/~{RDY} (hiz), 7 ~{CS} (in), 8 VDD (power)

## MCP3553T-E/SN
designator U?
Low-Power, Single-Channel 22-Bit Delta-Sigma ADC, 8-Pin SOIC 150mil, Extended Temperature, Tape and Reel; Manufacturer: Microchip; PartNumber: MCP3553T-E/SN; DatasheetVersion: revE, Apr-2009; PackageVersion: revBB, Aug-2009; PackageReference: SOIC-SN8; PackageDescription: 8-Lead Plastic Small Outline (SN) - Narrow, 3.90mm Body [SOIC]; Supplier 1: Digi-Key; Supplier Part Number 1: MCP3553T-E/SN-ND; Supplier 2: Mouser; Supplier Part Number 2: 579-MCP3553T-E/SN; Mounting Technology: Surface Mount; Code_JEDEC: MS-012; Code_IPC: SOIC127P600-8; ComponentLink1Description: Manufacturer URL; ComponentLink1URL: http://www.microchip.com/; ComponentLink2Description: Datasheet; ComponentLink2URL: http://ww1.microchip.com/downloads/en/DeviceDoc/21950e.pdf; ComponentLink3Description: Package Specification; ComponentLink3URL: http://www.microchip.com/stellent/groups/techpub_sg/documents/packagingspec/en012702.pdf
footprint SOIC-SN8_N (SOIC, 8-Leads, Body 4.9x3.8mm, Pitch 1.27mm, IPC Medium Density)
footprint SOIC-SN8_L (SOIC, 8-Leads, Body 4.9x3.8mm, Pitch 1.27mm, IPC High Density)
footprint SOIC-SN8_M (SOIC, 8-Leads, Body 4.9x3.8mm, Pitch 1.27mm, IPC Low Density)
pins: 1 VREF (in), 2 VIN+ (in), 3 VIN- (in), 4 VSS (power), 5 SCK (in), 6 SDO/~{RDY} (hiz), 7 ~{CS} (in), 8 VDD (power)

## MCP3901A0-E/ML
designator U?
Two Channel Analog Front End, 20-Pin QFN, Extended Temperature; Manufacturer: Microchip; PartNumber: MCP3901A0-E/ML; DatasheetVersion: revD, Apr-2011; PackageVersion: revBB, Aug-2009; PackageReference: QFN-ML20; PackageDescription: 20-Lead Plastic Quad Flat, No Lead Package (ML) - 4x4x0.9 mm Body [QFN]; Supplier 1: Digi-Key; Supplier Part Number 1: MCP3901A0-E/ML-ND; Supplier 2: Newark; Supplier Part Number 2: 55T3273; Supplier 3: Mouser; Supplier Part Number 3: 579-MCP3901A0-E/ML; Mounting Technology: Surface Mount; ComponentLink1Description: Manufacturer URL; ComponentLink1URL: http://www.microchip.com/; ComponentLink2Description: Datasheet; ComponentLink2URL: http://ww1.microchip.com/downloads/en/DeviceDoc/22192d.pdf; ComponentLink3Description: Package Specification; ComponentLink3URL: http://www.microchip.com/stellent/groups/techpub_sg/documents/packagingspec/en012702.pdf
footprint QFN-ML20_N (QFN, 20-Leads, Body 4x4mm, Pitch 0.5mm, Thermal Pad 2.8x2.8mm, IPC Medium Density)
footprint QFN-ML20_L (QFN, 20-Leads, Body 4x4mm, Pitch 0.5mm, Thermal Pad 2.8x2.8mm, IPC High Density)
footprint QFN-ML20_M (QFN, 20-Leads, Body 4x4mm, Pitch 0.5mm, Thermal Pad 2.8x2.8mm, IPC Low Density)
pins: 1 CH0+ (in), 2 CH0- (in), 3 CH1- (in), 4 CH1+ (in), 5 AGND (power), 6 REFIN/OUT+ (io), 7 REFIN- (in), 8 DGND (power), 9 MDAT1 (out), 10 MDAT0 (out), 11 ~{DR} (out), 12 OSC1/CLKI (in), 13 OSC2, 14 ~{CS} (in), 15 SCK (in), 16 SDO (out), 17 SDI (in), 18 ~{RESET} (in), 19 DVDD (power), 20 AVDD (power), 21 EP

## MCP3901A0-E/SS
designator U?
Two Channel Analog Front End, 20-Pin SSOP 208mil, Extended Temperature; Manufacturer: Microchip; PartNumber: MCP3901A0-E/SS; DatasheetVersion: revD, Apr-2011; PackageVersion: revBB, Aug-2009; PackageReference: SSOP-SS20; PackageDescription: 20-Lead Plastic Shrink Small Outline (SS) - 5.3mm Body [SSOP]; Supplier 1: Digi-Key; Supplier Part Number 1: MCP3901A0-E/SS-ND; Supplier 2: Farnell; Supplier Part Number 2: 1814889; Supplier 3: Newark; Supplier Part Number 3: 73R8373; Supplier 4: Newark; Supplier Part Number 4: 75T7446; Supplier 5: Mouser; Supplier Part Number 5: 579-MCP3901A0ESS; Mounting Technology: Surface Mount; Code_JEDEC: MO-150; ComponentLink1Description: Manufacturer URL; ComponentLink1URL: http://www.microchip.com/; ComponentLink2Description: Datasheet; ComponentLink2URL: http://ww1.microchip.com/downloads/en/DeviceDoc/22192d.pdf; ComponentLink3Description: Package Specification; ComponentLink3URL: http://www.microchip.com/stellent/groups/techpub_sg/documents/packagingspec/en012702.pdf
footprint SSOP-SS20_N (SOP, 20-Leads, Body 7.2x5.2mm, Pitch 0.65mm, IPC Medium Density)
footprint SSOP-SS20_L (SOP, 20-Leads, Body 7.2x5.2mm, Pitch 0.65mm, IPC High Density)
footprint SSOP-SS20_M (SOP, 20-Leads, Body 7.2x5.2mm, Pitch 0.65mm, IPC Low Density)
pins: 1 ~{RESET} (in), 2 DVDD (power), 3 AVDD (power), 4 CH0+ (in), 5 CH0- (in), 6 CH1- (in), 7 CH1+ (in), 8 AGND (power), 9 REFIN/OUT+ (io), 10 REFIN- (in), 11 DGND (power), 12 MDAT1 (out), 13 MDAT0 (out), 14 ~{DR} (out), 15 OSC1/CLKI (in), 16 OSC2, 17 ~{CS} (in), 18 SCK (in), 19 SDO (out), 20 SDI (in)